# Altium schematic symbol library IS66WVE4M16EBLL-70BLI.SchLib: 1 symbol
Pins are listed as number, name and electrical type; pins without a type are passive.

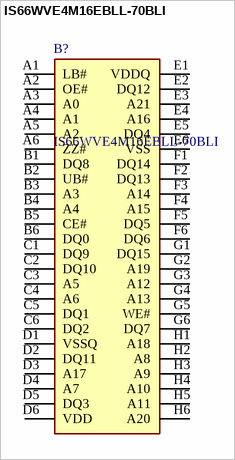
[diagram p0: symbol IS66WVE4M16EBLL-70BLI]

## IS66WVE4M16EBLL-70BLI
designator B?
SRAM 64Mb,Pseudo SRAM,Asynch/Page, 4M x 16,70ns,VDD 2.7V~3.6V, VDDQ 2.7V~3.6V,48 Ball BGA (6x8 mm), RoHS; Manufacturer_Name: INTEGRATED SILICON SOLUTION / ISSI; Geometry.Height: 1.2mm; Farnell Part Number: *; Farnell Price/Stock: *; Manufacturer_Part_Number: IS66WVE4M16EBLL-70BLI; Datasheet Link: https://www.issi.com/WW/pdf/66-67WVE4M16EALL-BLL-CLL.pdf
footprint BGA48C75P6X8_600X800X120
pins: A1 LB#, A2 OE#, A3 A0, A4 A1, A5 A2, A6 ZZ#, B1 DQ8, B2 UB#, B3 A3, B4 A4, B5 CE#, B6 DQ0, C1 DQ9, C2 DQ10, C3 A5, C4 A6, C5 DQ1, C6 DQ2, D1 VSSQ, D2 DQ11, D3 A17, D4 A7, D5 DQ3, D6 VDD, E1 VDDQ, E2 DQ12, E3 A21, E4 A16, E5 DQ4, E6 VSS, F1 DQ14, F2 DQ13, F3 A14, F4 A15, F5 DQ5, F6 DQ6, G1 DQ15, G2 A19, G3 A12, G4 A13, G5 WE#, G6 DQ7, H1 A18, H2 A8, H3 A9, H4 A10, H5 A11, H6 A20